# Altium footprint library IPC-7353 TSSOP_50P_N.PcbLib: 11 footprints
Each footprint in its own frame and in the unit in brackets; x right, y up, seen from the top. Pads: shape width x height; smd on the part's side, far side on the other; paste and mask are expansions set on the pad; w line width, h text height; cw(c..) or ccw(c..) is an arc to the next point about the centre after c.
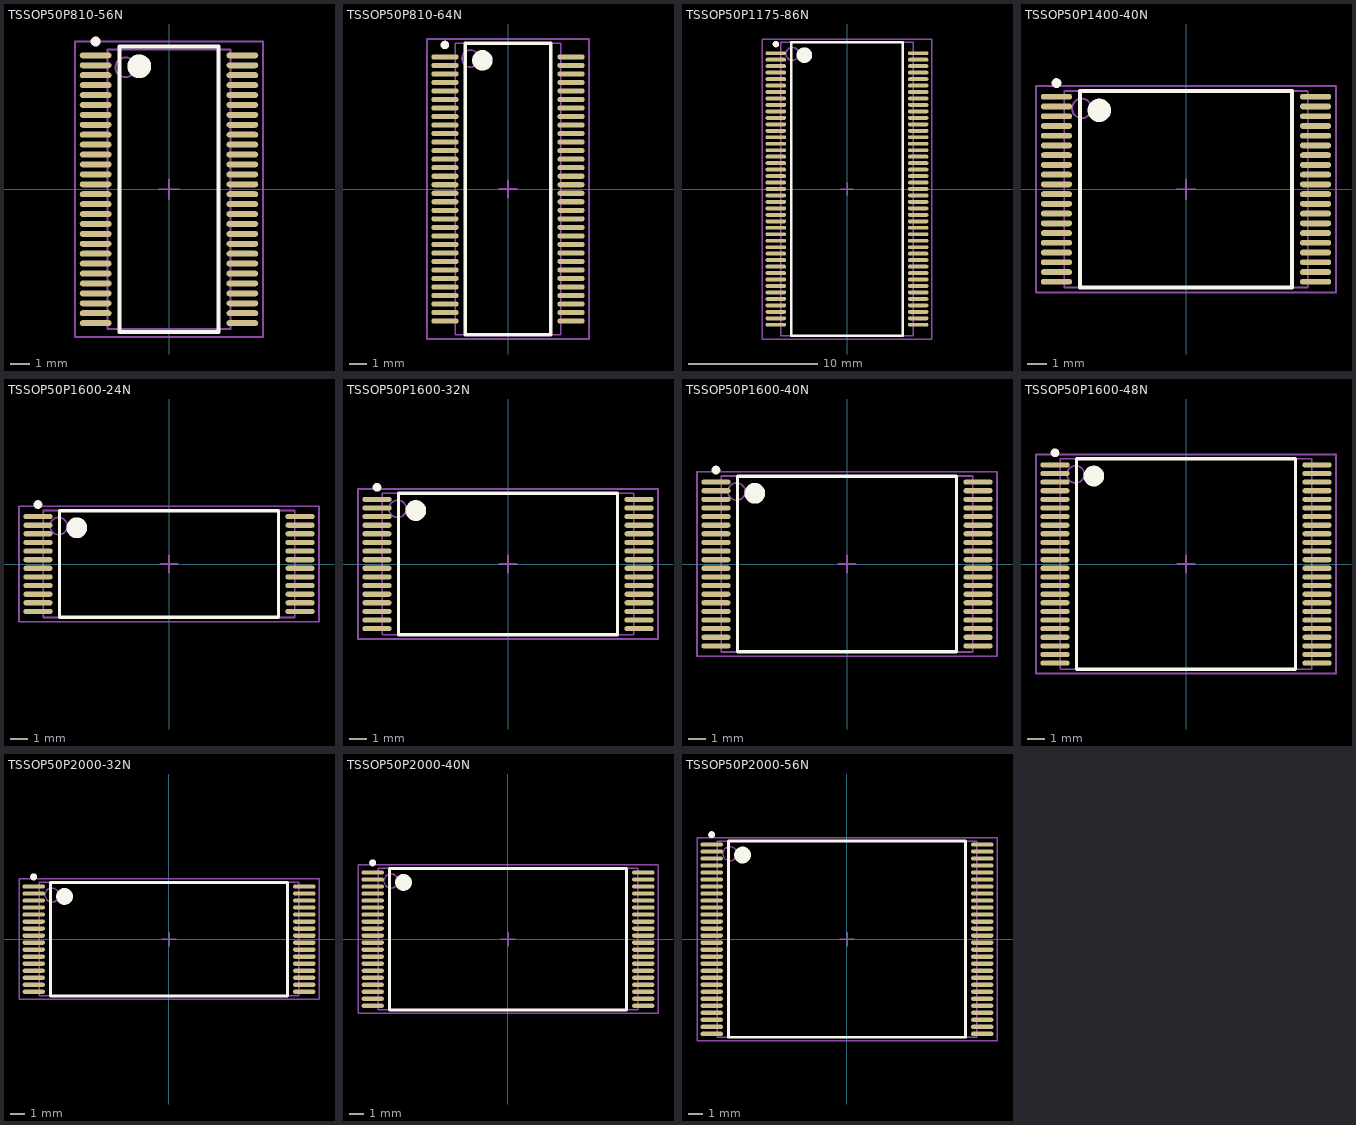
[diagram p0: the footprints below, top view; thin cyan lines are the x and y axes]

## TSSOP50P810-56N [mm] "TSSOP, 56-Leads, Body 14x6.1mm, Pitch 0.5mm, IPC Medium Density"
height 1.2
pads (56):
  oval 1.6x0.3 smd: 1(-3.7,6.75) 2(-3.7,6.25) 3(-3.7,5.75) 4(-3.7,5.25) 5(-3.7,4.75) 6(-3.7,4.25) 7(-3.7,3.75) 8(-3.7,3.25) 9(-3.7,2.75) 10(-3.7,2.25) 11(-3.7,1.75) 12(-3.7,1.25) 13(-3.7,0.75) 14(-3.7,0.25) 15(-3.7,-0.25) 16(-3.7,-0.75) 17(-3.7,-1.25) 18(-3.7,-1.75) 19(-3.7,-2.25) 20(-3.7,-2.75) 21(-3.7,-3.25) 22(-3.7,-3.75) 23(-3.7,-4.25) 24(-3.7,-4.75) 25(-3.7,-5.25) 26(-3.7,-5.75) 27(-3.7,-6.25) 28(-3.7,-6.75) 29(3.7,-6.75) 30(3.7,-6.25) 31(3.7,-5.75) 32(3.7,-5.25) 33(3.7,-4.75) 34(3.7,-4.25) 35(3.7,-3.75) 36(3.7,-3.25) 37(3.7,-2.75) 38(3.7,-2.25) 39(3.7,-1.75) 40(3.7,-1.25) 41(3.7,-0.75) 42(3.7,-0.25) 43(3.7,0.25) 44(3.7,0.75) 45(3.7,1.25) 46(3.7,1.75) 47(3.7,2.25) 48(3.7,2.75) 49(3.7,3.25) 50(3.7,3.75) 51(3.7,4.25) 52(3.7,4.75) 53(3.7,5.25) 54(3.7,5.75) 55(3.7,6.25) 56(3.7,6.75)
Top Overlay:
  circle w0.25: c-3.7,7.45 r0.125
  circle w0.6: c-1.5,6.2 r0.3
  lines w0.2: -2.5,-7.2 -2.5,7.2 2.5,7.2 2.5,-7.2 -2.5,-7.2
Mechanical 13:
  circle w0.1: c-2.2,6.15 r0.5
  lines w0.1: -3.1,-7.05 -3.1,7.05 3.1,7.05 3.1,-7.05 -3.1,-7.05
Mechanical 15:
  lines w0.1: -0.5,0 0.5,0 ; 0,-0.5 0,0.5 ; -4.75,-7.45 -4.75,7.45 4.75,7.45 4.75,-7.45 -4.75,-7.45
3D body: height 1.2, standoff 0, extent -3.1,-7.05 3.1,7.05

## TSSOP50P810-64N [mm] "TSSOP, 64-Leads, Body 17x6.1mm, Pitch 0.5mm, IPC Medium Density"
height 1.2
pads (64):
  oval 1.6x0.3 smd: 1(-3.7,7.75) 2(-3.7,7.25) 3(-3.7,6.75) 4(-3.7,6.25) 5(-3.7,5.75) 6(-3.7,5.25) 7(-3.7,4.75) 8(-3.7,4.25) 9(-3.7,3.75) 10(-3.7,3.25) 11(-3.7,2.75) 12(-3.7,2.25) 13(-3.7,1.75) 14(-3.7,1.25) 15(-3.7,0.75) 16(-3.7,0.25) 17(-3.7,-0.25) 18(-3.7,-0.75) 19(-3.7,-1.25) 20(-3.7,-1.75) 21(-3.7,-2.25) 22(-3.7,-2.75) 23(-3.7,-3.25) 24(-3.7,-3.75) 25(-3.7,-4.25) 26(-3.7,-4.75) 27(-3.7,-5.25) 28(-3.7,-5.75) 29(-3.7,-6.25) 30(-3.7,-6.75) 31(-3.7,-7.25) 32(-3.7,-7.75) 33(3.7,-7.75) 34(3.7,-7.25) 35(3.7,-6.75) 36(3.7,-6.25) 37(3.7,-5.75) 38(3.7,-5.25) 39(3.7,-4.75) 40(3.7,-4.25) 41(3.7,-3.75) 42(3.7,-3.25) 43(3.7,-2.75) 44(3.7,-2.25) 45(3.7,-1.75) 46(3.7,-1.25) 47(3.7,-0.75) 48(3.7,-0.25) 49(3.7,0.25) 50(3.7,0.75) 51(3.7,1.25) 52(3.7,1.75) 53(3.7,2.25) 54(3.7,2.75) 55(3.7,3.25) 56(3.7,3.75) 57(3.7,4.25) 58(3.7,4.75) 59(3.7,5.25) 60(3.7,5.75) 61(3.7,6.25) 62(3.7,6.75) 63(3.7,7.25) 64(3.7,7.75)
Top Overlay:
  circle w0.6: c-1.5,7.55 r0.3
  circle w0.25: c-3.7,8.45 r0.125
  lines w0.2: -2.5,-8.55 2.5,-8.55 2.5,8.55 -2.5,8.55 -2.5,-8.55
Mechanical 13:
  circle w0.1: c-2.2,7.65 r0.5
  lines w0.1: -3.1,-8.55 3.1,-8.55 3.1,8.55 -3.1,8.55 -3.1,-8.55
Mechanical 15:
  lines w0.1: -0.5,0 0.5,0 ; 0,-0.5 0,0.5 ; -4.75,-8.8 4.75,-8.8 4.75,8.8 -4.75,8.8 -4.75,-8.8
3D body: height 1.2, standoff 0, extent -3.1,-8.55 3.1,8.55

## TSSOP50P1175-86N [mm] "TSSOP, 86-Leads, Body 22.2x10.2mm, Pitch 0.5mm, IPC Medium Density"
height 1.2
pads (86):
  oval 1.6x0.3 smd: 1(-5.5,10.5) 2(-5.5,10) 3(-5.5,9.5) 4(-5.5,9) 5(-5.5,8.5) 6(-5.5,8) 7(-5.5,7.5) 8(-5.5,7) 9(-5.5,6.5) 10(-5.5,6) 11(-5.5,5.5) 12(-5.5,5) 13(-5.5,4.5) 14(-5.5,4) 15(-5.5,3.5) 16(-5.5,3) 17(-5.5,2.5) 18(-5.5,2) 19(-5.5,1.5) 20(-5.5,1) 21(-5.5,0.5) 22(-5.5,0) 23(-5.5,-0.5) 24(-5.5,-1) 25(-5.5,-1.5) 26(-5.5,-2) 27(-5.5,-2.5) 28(-5.5,-3) 29(-5.5,-3.5) 30(-5.5,-4) 31(-5.5,-4.5) 32(-5.5,-5) 33(-5.5,-5.5) 34(-5.5,-6) 35(-5.5,-6.5) 36(-5.5,-7) 37(-5.5,-7.5) 38(-5.5,-8) 39(-5.5,-8.5) 40(-5.5,-9) 41(-5.5,-9.5) 42(-5.5,-10) 43(-5.5,-10.5) 44(5.5,-10.5) 45(5.5,-10) 46(5.5,-9.5) 47(5.5,-9) 48(5.5,-8.5) 49(5.5,-8) 50(5.5,-7.5) 51(5.5,-7) 52(5.5,-6.5) 53(5.5,-6) 54(5.5,-5.5) 55(5.5,-5) 56(5.5,-4.5) 57(5.5,-4) 58(5.5,-3.5) 59(5.5,-3) 60(5.5,-2.5) 61(5.5,-2) 62(5.5,-1.5) 63(5.5,-1) 64(5.5,-0.5) 65(5.5,0) 66(5.5,0.5) 67(5.5,1) 68(5.5,1.5) 69(5.5,2) 70(5.5,2.5) 71(5.5,3) 72(5.5,3.5) 73(5.5,4) 74(5.5,4.5) 75(5.5,5) 76(5.5,5.5) 77(5.5,6) 78(5.5,6.5) 79(5.5,7) 80(5.5,7.5) 81(5.5,8) 82(5.5,8.5) 83(5.5,9) 84(5.5,9.5) 85(5.5,10) 86(5.5,10.5)
Top Overlay:
  circle w0.6: c-3.3,10.35 r0.3
  circle w0.25: c-5.5,11.2 r0.125
  lines w0.2: -4.3,-11.35 4.3,-11.35 4.3,11.35 -4.3,11.35 -4.3,-11.35
Mechanical 13:
  circle w0.1: c-4.225,10.45 r0.5
  lines w0.1: -5.125,-11.35 5.125,-11.35 5.125,11.35 -5.125,11.35 -5.125,-11.35
Mechanical 15:
  lines w0.1: -0.5,0 0.5,0 ; 0,-0.5 0,0.5 ; -6.55,-11.6 6.55,-11.6 6.55,11.6 -6.55,11.6 -6.55,-11.6
3D body: height 1.2, standoff 0, extent -5.125,-11.35 5.125,11.35

## TSSOP50P1400-40N [mm] "TSSOP, 40-Leads, Body 10x14.4mm, Pitch 0.5mm, IPC Medium Density"
height 1.2
pads (40):
  oval 1.6x0.3 smd: 1(-6.65,4.75) 2(-6.65,4.25) 3(-6.65,3.75) 4(-6.65,3.25) 5(-6.65,2.75) 6(-6.65,2.25) 7(-6.65,1.75) 8(-6.65,1.25) 9(-6.65,0.75) 10(-6.65,0.25) 11(-6.65,-0.25) 12(-6.65,-0.75) 13(-6.65,-1.25) 14(-6.65,-1.75) 15(-6.65,-2.25) 16(-6.65,-2.75) 17(-6.65,-3.25) 18(-6.65,-3.75) 19(-6.65,-4.25) 20(-6.65,-4.75) 21(6.65,-4.75) 22(6.65,-4.25) 23(6.65,-3.75) 24(6.65,-3.25) 25(6.65,-2.75) 26(6.65,-2.25) 27(6.65,-1.75) 28(6.65,-1.25) 29(6.65,-0.75) 30(6.65,-0.25) 31(6.65,0.25) 32(6.65,0.75) 33(6.65,1.25) 34(6.65,1.75) 35(6.65,2.25) 36(6.65,2.75) 37(6.65,3.25) 38(6.65,3.75) 39(6.65,4.25) 40(6.65,4.75)
Top Overlay:
  circle w0.6: c-4.45,4.05 r0.3
  circle w0.25: c-6.65,5.45 r0.125
  lines w0.2: -5.45,-5.05 5.45,-5.05 5.45,5.05 -5.45,5.05 -5.45,-5.05
Mechanical 13:
  circle w0.1: c-5.35,4.15 r0.5
  lines w0.1: -6.25,-5.05 6.25,-5.05 6.25,5.05 -6.25,5.05 -6.25,-5.05
Mechanical 15:
  lines w0.1: -0.5,0 0.5,0 ; 0,-0.5 0,0.5 ; -7.7,-5.3 7.7,-5.3 7.7,5.3 -7.7,5.3 -7.7,-5.3
3D body: height 1.2, standoff 0, extent -6.25,-5.05 6.25,5.05

## TSSOP50P1600-24N [mm] "TSSOP, 24-Leads, Body 6x14.4mm, Pitch 0.5mm, IPC Medium Density"
height 1.27
pads (24):
  oval 1.7x0.3 smd: 1(-7.6,2.75) 2(-7.6,2.25) 3(-7.6,1.75) 4(-7.6,1.25) 5(-7.6,0.75) 6(-7.6,0.25) 7(-7.6,-0.25) 8(-7.6,-0.75) 9(-7.6,-1.25) 10(-7.6,-1.75) 11(-7.6,-2.25) 12(-7.6,-2.75) 13(7.6,-2.75) 14(7.6,-2.25) 15(7.6,-1.75) 16(7.6,-1.25) 17(7.6,-0.75) 18(7.6,-0.25) 19(7.6,0.25) 20(7.6,0.75) 21(7.6,1.25) 22(7.6,1.75) 23(7.6,2.25) 24(7.6,2.75)
Top Overlay:
  circle w0.6: c-5.35,2.1 r0.3
  circle w0.25: c-7.6,3.45 r0.125
  lines w0.2: -6.35,-3.1 6.35,-3.1 6.35,3.1 -6.35,3.1 -6.35,-3.1
Mechanical 13:
  circle w0.1: c-6.4,2.2 r0.5
  lines w0.1: -7.3,-3.1 7.3,-3.1 7.3,3.1 -7.3,3.1 -7.3,-3.1
Mechanical 15:
  lines w0.1: -0.5,0 0.5,0 ; 0,-0.5 0,0.5 ; -8.7,-3.35 8.7,-3.35 8.7,3.35 -8.7,3.35 -8.7,-3.35
3D body: height 1.27, standoff 0, extent -7.3,-3.1 7.3,3.1

## TSSOP50P1600-32N [mm] "TSSOP, 32-Leads, Body 8x14.4mm, Pitch 0.5mm, IPC Medium Density"
height 1.27
pads (32):
  oval 1.7x0.3 smd: 1(-7.6,3.75) 2(-7.6,3.25) 3(-7.6,2.75) 4(-7.6,2.25) 5(-7.6,1.75) 6(-7.6,1.25) 7(-7.6,0.75) 8(-7.6,0.25) 9(-7.6,-0.25) 10(-7.6,-0.75) 11(-7.6,-1.25) 12(-7.6,-1.75) 13(-7.6,-2.25) 14(-7.6,-2.75) 15(-7.6,-3.25) 16(-7.6,-3.75) 17(7.6,-3.75) 18(7.6,-3.25) 19(7.6,-2.75) 20(7.6,-2.25) 21(7.6,-1.75) 22(7.6,-1.25) 23(7.6,-0.75) 24(7.6,-0.25) 25(7.6,0.25) 26(7.6,0.75) 27(7.6,1.25) 28(7.6,1.75) 29(7.6,2.25) 30(7.6,2.75) 31(7.6,3.25) 32(7.6,3.75)
Top Overlay:
  circle w0.6: c-5.35,3.1 r0.3
  circle w0.25: c-7.6,4.45 r0.125
  lines w0.2: -6.35,-4.1 6.35,-4.1 6.35,4.1 -6.35,4.1 -6.35,-4.1
Mechanical 13:
  circle w0.1: c-6.4,3.2 r0.5
  lines w0.1: -7.3,-4.1 7.3,-4.1 7.3,4.1 -7.3,4.1 -7.3,-4.1
Mechanical 15:
  lines w0.1: -0.5,0 0.5,0 ; 0,-0.5 0,0.5 ; -8.7,-4.35 8.7,-4.35 8.7,4.35 -8.7,4.35 -8.7,-4.35
3D body: height 1.27, standoff 0, extent -7.3,-4.1 7.3,4.1

## TSSOP50P1600-40N [mm] "TSSOP, 40-Leads, Body 10x14.4mm, Pitch 0.5mm, IPC Medium Density"
height 1.27
pads (40):
  oval 1.7x0.3 smd: 1(-7.6,4.75) 2(-7.6,4.25) 3(-7.6,3.75) 4(-7.6,3.25) 5(-7.6,2.75) 6(-7.6,2.25) 7(-7.6,1.75) 8(-7.6,1.25) 9(-7.6,0.75) 10(-7.6,0.25) 11(-7.6,-0.25) 12(-7.6,-0.75) 13(-7.6,-1.25) 14(-7.6,-1.75) 15(-7.6,-2.25) 16(-7.6,-2.75) 17(-7.6,-3.25) 18(-7.6,-3.75) 19(-7.6,-4.25) 20(-7.6,-4.75) 21(7.6,-4.75) 22(7.6,-4.25) 23(7.6,-3.75) 24(7.6,-3.25) 25(7.6,-2.75) 26(7.6,-2.25) 27(7.6,-1.75) 28(7.6,-1.25) 29(7.6,-0.75) 30(7.6,-0.25) 31(7.6,0.25) 32(7.6,0.75) 33(7.6,1.25) 34(7.6,1.75) 35(7.6,2.25) 36(7.6,2.75) 37(7.6,3.25) 38(7.6,3.75) 39(7.6,4.25) 40(7.6,4.75)
Top Overlay:
  circle w0.6: c-5.35,4.1 r0.3
  circle w0.25: c-7.6,5.45 r0.125
  lines w0.2: -6.35,-5.1 6.35,-5.1 6.35,5.1 -6.35,5.1 -6.35,-5.1
Mechanical 13:
  circle w0.1: c-6.4,4.2 r0.5
  lines w0.1: -7.3,-5.1 7.3,-5.1 7.3,5.1 -7.3,5.1 -7.3,-5.1
Mechanical 15:
  lines w0.1: -0.5,0 0.5,0 ; 0,-0.5 0,0.5 ; -8.7,-5.35 8.7,-5.35 8.7,5.35 -8.7,5.35 -8.7,-5.35
3D body: height 1.27, standoff 0, extent -7.3,-5.1 7.3,5.1

## TSSOP50P1600-48N [mm] "TSSOP, 48-Leads, Body 12x14.4mm, Pitch 0.5mm, IPC Medium Density"
height 1.27
pads (48):
  oval 1.7x0.3 smd: 1(-7.6,5.75) 2(-7.6,5.25) 3(-7.6,4.75) 4(-7.6,4.25) 5(-7.6,3.75) 6(-7.6,3.25) 7(-7.6,2.75) 8(-7.6,2.25) 9(-7.6,1.75) 10(-7.6,1.25) 11(-7.6,0.75) 12(-7.6,0.25) 13(-7.6,-0.25) 14(-7.6,-0.75) 15(-7.6,-1.25) 16(-7.6,-1.75) 17(-7.6,-2.25) 18(-7.6,-2.75) 19(-7.6,-3.25) 20(-7.6,-3.75) 21(-7.6,-4.25) 22(-7.6,-4.75) 23(-7.6,-5.25) 24(-7.6,-5.75) 25(7.6,-5.75) 26(7.6,-5.25) 27(7.6,-4.75) 28(7.6,-4.25) 29(7.6,-3.75) 30(7.6,-3.25) 31(7.6,-2.75) 32(7.6,-2.25) 33(7.6,-1.75) 34(7.6,-1.25) 35(7.6,-0.75) 36(7.6,-0.25) 37(7.6,0.25) 38(7.6,0.75) 39(7.6,1.25) 40(7.6,1.75) 41(7.6,2.25) 42(7.6,2.75) 43(7.6,3.25) 44(7.6,3.75) 45(7.6,4.25) 46(7.6,4.75) 47(7.6,5.25) 48(7.6,5.75)
Top Overlay:
  circle w0.6: c-5.35,5.1 r0.3
  circle w0.25: c-7.6,6.45 r0.125
  lines w0.2: -6.35,-6.1 6.35,-6.1 6.35,6.1 -6.35,6.1 -6.35,-6.1
Mechanical 13:
  circle w0.1: c-6.4,5.2 r0.5
  lines w0.1: -7.3,-6.1 7.3,-6.1 7.3,6.1 -7.3,6.1 -7.3,-6.1
Mechanical 15:
  lines w0.1: -0.5,0 0.5,0 ; 0,-0.5 0,0.5 ; -8.7,-6.35 8.7,-6.35 8.7,6.35 -8.7,6.35 -8.7,-6.35
3D body: height 1.27, standoff 0, extent -7.3,-6.1 7.3,6.1

## TSSOP50P2000-32N [mm] "TSSOP, 32-Leads, Body 8x18.4mm, Pitch 0.5mm, IPC Medium Density"
height 1.2
pads (32):
  oval 1.6x0.3 smd: 1(-9.65,3.75) 2(-9.65,3.25) 3(-9.65,2.75) 4(-9.65,2.25) 5(-9.65,1.75) 6(-9.65,1.25) 7(-9.65,0.75) 8(-9.65,0.25) 9(-9.65,-0.25) 10(-9.65,-0.75) 11(-9.65,-1.25) 12(-9.65,-1.75) 13(-9.65,-2.25) 14(-9.65,-2.75) 15(-9.65,-3.25) 16(-9.65,-3.75) 17(9.65,-3.75) 18(9.65,-3.25) 19(9.65,-2.75) 20(9.65,-2.25) 21(9.65,-1.75) 22(9.65,-1.25) 23(9.65,-0.75) 24(9.65,-0.25) 25(9.65,0.25) 26(9.65,0.75) 27(9.65,1.25) 28(9.65,1.75) 29(9.65,2.25) 30(9.65,2.75) 31(9.65,3.25) 32(9.65,3.75)
Top Overlay:
  circle w0.6: c-7.45,3.05 r0.3
  circle w0.25: c-9.65,4.45 r0.125
  lines w0.2: -8.45,-4.05 8.45,-4.05 8.45,4.05 -8.45,4.05 -8.45,-4.05
Mechanical 13:
  circle w0.1: c-8.35,3.15 r0.5
  lines w0.1: -9.25,-4.05 9.25,-4.05 9.25,4.05 -9.25,4.05 -9.25,-4.05
Mechanical 15:
  lines w0.1: -0.5,0 0.5,0 ; 0,-0.5 0,0.5 ; -10.7,-4.3 10.7,-4.3 10.7,4.3 -10.7,4.3 -10.7,-4.3
3D body: height 1.2, standoff 0, extent -9.25,-4.05 9.25,4.05

## TSSOP50P2000-40N [mm] "TSSOP, 40-Leads, Body 10x18.4mm, Pitch 0.5mm, IPC Medium Density"
height 1.2
pads (40):
  oval 1.6x0.3 smd: 1(-9.65,4.75) 2(-9.65,4.25) 3(-9.65,3.75) 4(-9.65,3.25) 5(-9.65,2.75) 6(-9.65,2.25) 7(-9.65,1.75) 8(-9.65,1.25) 9(-9.65,0.75) 10(-9.65,0.25) 11(-9.65,-0.25) 12(-9.65,-0.75) 13(-9.65,-1.25) 14(-9.65,-1.75) 15(-9.65,-2.25) 16(-9.65,-2.75) 17(-9.65,-3.25) 18(-9.65,-3.75) 19(-9.65,-4.25) 20(-9.65,-4.75) 21(9.65,-4.75) 22(9.65,-4.25) 23(9.65,-3.75) 24(9.65,-3.25) 25(9.65,-2.75) 26(9.65,-2.25) 27(9.65,-1.75) 28(9.65,-1.25) 29(9.65,-0.75) 30(9.65,-0.25) 31(9.65,0.25) 32(9.65,0.75) 33(9.65,1.25) 34(9.65,1.75) 35(9.65,2.25) 36(9.65,2.75) 37(9.65,3.25) 38(9.65,3.75) 39(9.65,4.25) 40(9.65,4.75)
Top Overlay:
  circle w0.6: c-7.45,4.05 r0.3
  circle w0.25: c-9.65,5.45 r0.125
  lines w0.2: -8.45,-5.05 8.45,-5.05 8.45,5.05 -8.45,5.05 -8.45,-5.05
Mechanical 13:
  circle w0.1: c-8.35,4.15 r0.5
  lines w0.1: -9.25,-5.05 9.25,-5.05 9.25,5.05 -9.25,5.05 -9.25,-5.05
Mechanical 15:
  lines w0.1: -0.5,0 0.5,0 ; 0,-0.5 0,0.5 ; -10.7,-5.3 10.7,-5.3 10.7,5.3 -10.7,5.3 -10.7,-5.3
3D body: height 1.2, standoff 0, extent -9.25,-5.05 9.25,5.05

## TSSOP50P2000-56N [mm] "TSSOP, 56-Leads, Body 14x18.4mm, Pitch 0.5mm, IPC Medium Density"
height 1.2
pads (56):
  oval 1.6x0.3 smd: 1(-9.65,6.75) 2(-9.65,6.25) 3(-9.65,5.75) 4(-9.65,5.25) 5(-9.65,4.75) 6(-9.65,4.25) 7(-9.65,3.75) 8(-9.65,3.25) 9(-9.65,2.75) 10(-9.65,2.25) 11(-9.65,1.75) 12(-9.65,1.25) 13(-9.65,0.75) 14(-9.65,0.25) 15(-9.65,-0.25) 16(-9.65,-0.75) 17(-9.65,-1.25) 18(-9.65,-1.75) 19(-9.65,-2.25) 20(-9.65,-2.75) 21(-9.65,-3.25) 22(-9.65,-3.75) 23(-9.65,-4.25) 24(-9.65,-4.75) 25(-9.65,-5.25) 26(-9.65,-5.75) 27(-9.65,-6.25) 28(-9.65,-6.75) 29(9.65,-6.75) 30(9.65,-6.25) 31(9.65,-5.75) 32(9.65,-5.25) 33(9.65,-4.75) 34(9.65,-4.25) 35(9.65,-3.75) 36(9.65,-3.25) 37(9.65,-2.75) 38(9.65,-2.25) 39(9.65,-1.75) 40(9.65,-1.25) 41(9.65,-0.75) 42(9.65,-0.25) 43(9.65,0.25) 44(9.65,0.75) 45(9.65,1.25) 46(9.65,1.75) 47(9.65,2.25) 48(9.65,2.75) 49(9.65,3.25) 50(9.65,3.75) 51(9.65,4.25) 52(9.65,4.75) 53(9.65,5.25) 54(9.65,5.75) 55(9.65,6.25) 56(9.65,6.75)
Top Overlay:
  circle w0.6: c-7.45,6 r0.3
  circle w0.25: c-9.65,7.45 r0.125
  lines w0.2: -8.45,-7 8.45,-7 8.45,7 -8.45,7 -8.45,-7
Mechanical 13:
  circle w0.1: c-8.35,6.1 r0.5
  lines w0.1: -9.25,-7 9.25,-7 9.25,7 -9.25,7 -9.25,-7
Mechanical 15:
  lines w0.1: -0.5,0 0.5,0 ; 0,-0.5 0,0.5 ; -10.7,-7.25 10.7,-7.25 10.7,7.25 -10.7,7.25 -10.7,-7.25
3D body: height 1.2, standoff 0, extent -9.25,-7 9.25,7